# Altium footprint library Control_Board_Model_C201.PcbLib: 94 footprints (part 3 of 6)
Each footprint in its own frame and in the unit in brackets; x right, y up, seen from the top. Pads: shape width x height; smd on the part's side, far side on the other; paste and mask are expansions set on the pad; w line width, h text height; cw(c..) or ccw(c..) is an arc to the next point about the centre after c.
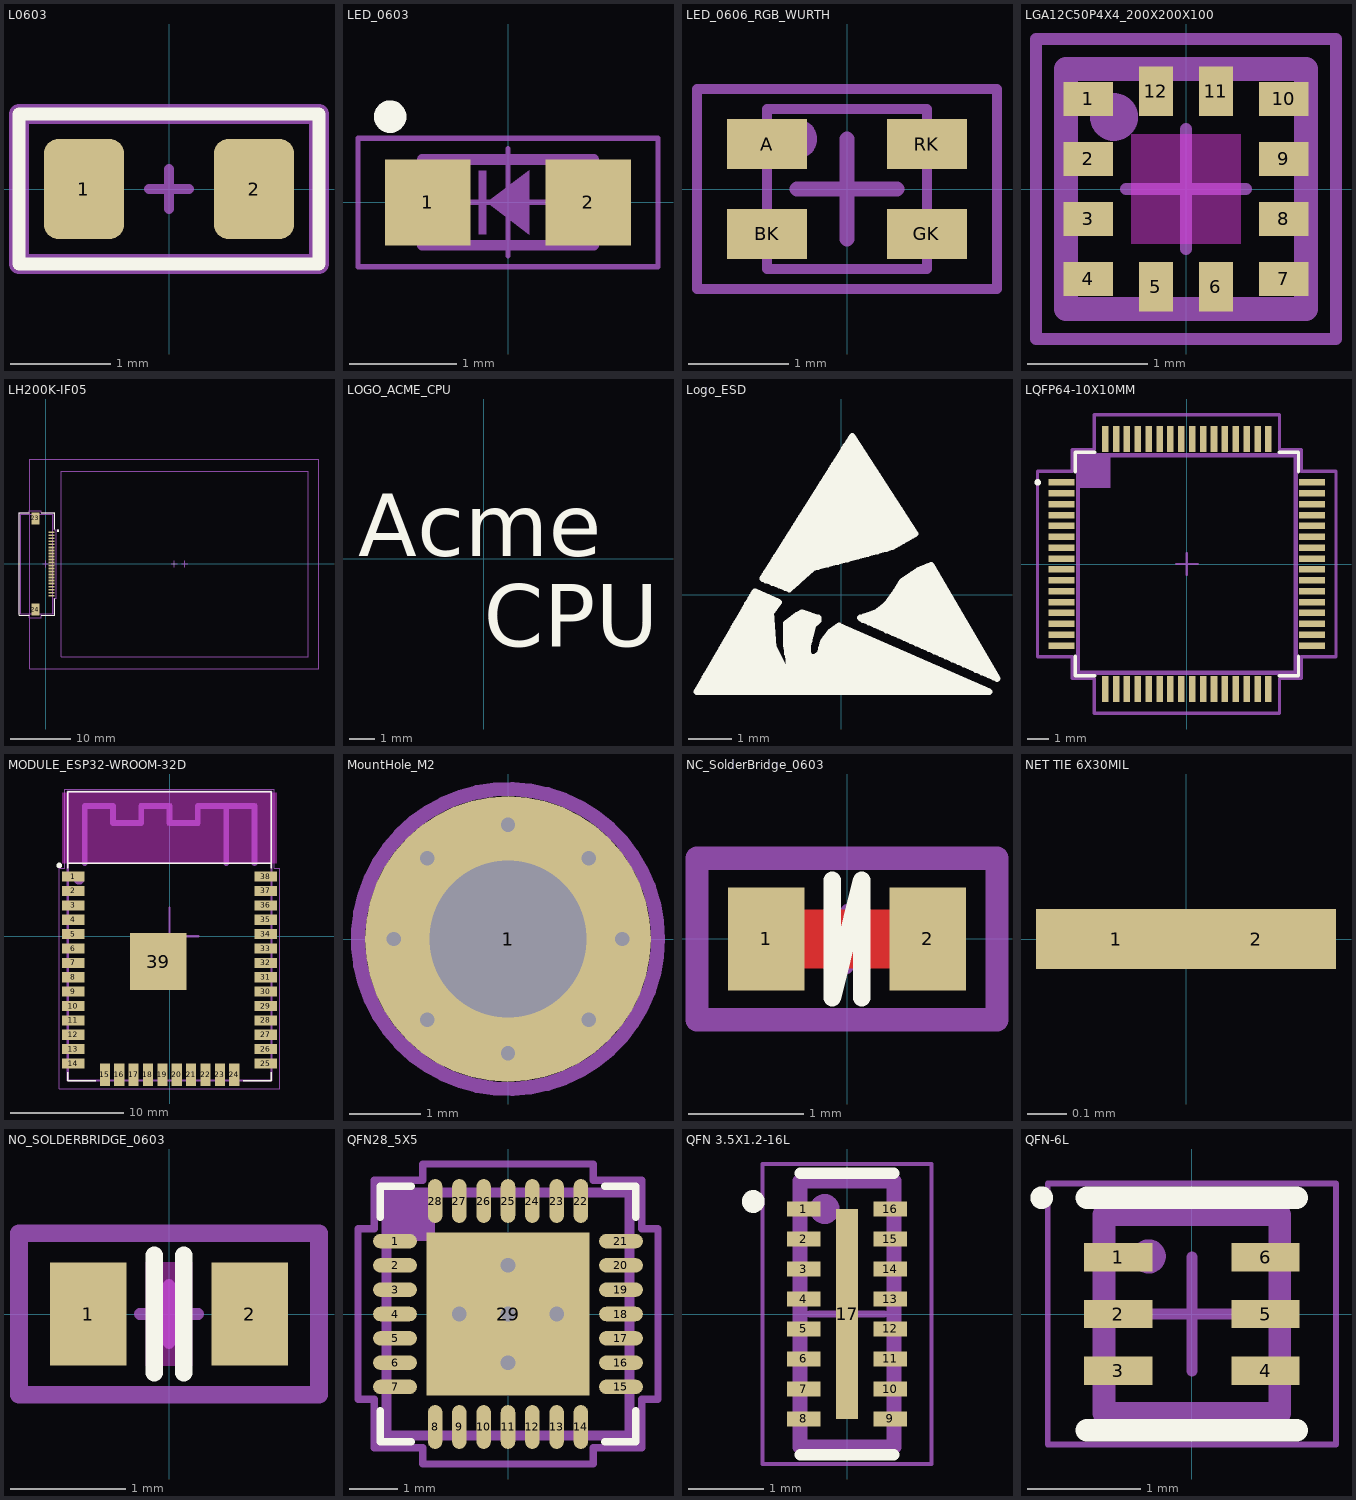
[diagram p2: the footprints below, top view; thin cyan lines are the x and y axes]

## L0603 [mm]
pads (2):
  rrect35% 0.8x1 smd: 1(-0.85,0) 2(0.85,0)
Top Overlay:
  lines w0.127: -1.5,-0.75 -1.5,0.75 1.5,0.75 1.5,-0.75 -1.5,-0.75
Mechanical 14:
  lines w0.2: -1.5,-0.75 1.5,-0.75 1.5,0.75 -1.5,0.75 -1.5,-0.75
  text ".Designator" at -1,-0.2 h0.5
Mechanical 15:
  lines w0.1: -0.2,0 0.2,0 ; 0,-0.2 0,0.2 ; -1.5,-0.75 -1.5,0.75 1.5,0.75 1.5,-0.75 -1.5,-0.75
3D body "IND_1608.step": height 0.8, standoff 0, extent -0.8,-0.4 0.8,0.4

## LED_0603 [mm] "LED Indication - Discrete 0603"
height 0.55
pads (2):
  rect 0.8x0.8 smd: 1(-0.75,0) 2(0.75,0)
Top Overlay:
  circle w0.203: c-1.1,0.8 r0.05
Mechanical 14:
  rectangle: -0.275,-0.3 -0.2,0.3
  region: -0.2,0 0.2,0.3 0.2,-0.3
  lines w0.1: -0.8,-0.4 -0.8,0.4 0.8,0.4 0.8,-0.4 -0.8,-0.4
  text "'.Designator'" at -0.9,0.7 h0.5
Mechanical 15:
  lines w0.05: -0.5,0 0.5,0 ; 0,-0.5 0,0.5 ; -1.4,-0.6 1.4,-0.6 1.4,0.6 -1.4,0.6 -1.4,-0.6
3D body "LTST-C191KGKT--3DModel-STEP-56544.STEP": height 0.55, standoff 0, extent -0.8,-0.4 0.8,0.4

## LED_0606_RGB_WURTH [mm] "Chip; Body 1.6 x 1.6 mm (LxW typ) WURTH"
height 0.55
pads (4):
  rect 0.8x0.5 smd: A(-0.8,0.45) BK(-0.8,-0.45) GK(0.8,-0.45) RK(0.8,0.45)
Mechanical 14:
  circle w0.2: c-0.5,0.5 r0.1
  lines w0.1: -0.8,-0.8 0.8,-0.8 0.8,0.8 -0.8,0.8 -0.8,-0.8
  text ".Designator" at -1,1.1 h0.5
Mechanical 15:
  lines w0.1: -1.5,-1 -1.5,1 1.5,1 1.5,-1 -1.5,-1
  lines w0.152: -0.5,0 0.5,0 ; 0,-0.5 0,0.5
3D body "STEP-WL-SFCW-0606-rev1.stp": height 0.4, standoff 0, extent -0.8,-0.8 0.8,0.8

## LGA12C50P4X4_200X200X100 [mm] "LGA, 12-Leads, Body 2.00x2.00mmx1.00mm, Pitch 0.50mm"
height 1
pads (12):
  rect 0.41x0.28 smd mask+0.05: 1(-0.815,0.75) 2(-0.815,0.25) 3(-0.815,-0.25) 4(-0.815,-0.75) 7(0.815,-0.75) 8(0.815,-0.25) 9(0.815,0.25) 10(0.815,0.75)
  rect 0.28x0.41 smd mask+0.05: 5(-0.25,-0.815) 6(0.25,-0.815) 11(0.25,0.815) 12(-0.25,0.815)
Top Layer keep-out:
  rectangle: -0.457,-0.457 0.457,0.457
Mechanical 14:
  circle w0.2: c-0.6,0.6 r0.1
  lines w0.2: -1,-1 -1,1 1,1 1,-1 -1,-1
  text "'.Designator'" at -0.6,-0.3 h0.5
Mechanical 15:
  lines w0.1: -0.5,0 0.5,0 ; 0,-0.5 0,0.5 ; -1.25,-1.25 -1.25,1.25 1.25,1.25 1.25,-1.25 -1.25,-1.25
3D body "LGA12C50P4X4_200X200X100.step": height 1, standoff 0, extent -1.038,-1.038 1.038,1.038

## LH200K-IF05 [mm] "TFT LCD MODULE"
height 7
pads (24):
  rect 1x0.3 smd mask+0.05: 1(1,-5.25) 2(1,-4.75) 3(1,-4.25) 4(1,-3.75) 5(1,-3.25) 6(1,-2.75) 7(1,-2.25) 8(1,-1.75) 9(1,-1.25) 10(1,-0.75) 11(1,-0.25) 12(1,0.25) 13(1,0.75) 14(1,1.25) 15(1,1.75) 16(1,2.25) 17(1,2.75) 18(1,3.25) 19(1,3.75) 20(1,4.25) 21(1,4.75) 22(1,5.25)
  rect 1.3x2 smd mask+0.05: 23(-1.7,7.55) 24(-1.7,-7.55)
Top Overlay:
  circle w0.2: c2.046,5.5 r0.1
  lines w0.152: -2.706,-8.5 -4.4,-8.5 -4.4,8.5 -2.706,8.5 ; -0.694,-8.5 1.5,-8.5 1.5,-5.761 ; -0.694,8.5 1.5,8.5 1.5,5.761
Mechanical 14:
  circle w0.2: c2.046,5.5 r0.1
  lines w0.2: -4.15,-8.25 1.15,-8.25 1.15,8.25 -4.15,8.25 -4.15,-8.25
  text "22" at -0.316,7.436 h1
  text "1" at -0.062,-5.772 h1
Mechanical 15:
  lines w0.1: -0.5,0 0.5,0 ; 0,-0.5 0,0.5
  lines w0.152: -4.363,-8.204 -2.7,-8.204 -2.7,-8.9 -0.7,-8.9 -0.7,-8.204 1.454,-8.204 1.454,-5.682 1.775,-5.682 1.775,5.682 1.454,5.682 1.454,8.5 -0.7,8.5 -0.7,8.807 -2.7,8.807 -2.7,8.5 -4.363,8.5 -4.363,-8.204
Mechanical 19:
  lines w0.2: 20.8,0 21.8,0 ; 21.3,-0.5 21.3,0.5 ; 22.5,0 23.5,0 ; 23,-0.5 23,0.5 ; -2.6,-17.3 -2.6,17.3 45.2,17.3 45.2,-17.3 -2.6,-17.3 ; 2.6,-15.3 2.6,15.3 43.4,15.3 43.4,-15.3 2.6,-15.3
  text "Top Left Corner" at 41.8,-14.8 h1
  text "Center of the screen" at 23.6,-8.9 h1
  text "Center of the panel" at 19.6,-9.1 h1
3D body "5051102291.stp": height 1.88, standoff -0.02, extent -4.154,-8.25 1.146,8.25
3D body: height -6, standoff -8, extent -2.6,-17.3 45.2,17.3

## LOGO_ACME_CPU [mm]
Top Overlay:
  text "CPU" at 0,-3.5 h2.5
  text "Acme" at -5,0.1 h2.5

## Logo_ESD [mm] "Silk only"
Top Overlay:
  drawing of 211 lines, arcs and shapes, not listed

## LQFP64-10X10MM [mm]
pads (64):
  rect 1.2x0.3 smd: 1(-5.75,3.75) 2(-5.75,3.25) 3(-5.75,2.75) 4(-5.75,2.25) 5(-5.75,1.75) 6(-5.75,1.25) 7(-5.75,0.75) 8(-5.75,0.25) 9(-5.75,-0.25) 10(-5.75,-0.75) 11(-5.75,-1.25) 12(-5.75,-1.75) 13(-5.75,-2.25) 14(-5.75,-2.75) 15(-5.75,-3.25) 16(-5.75,-3.75) 33(5.75,-3.75) 34(5.75,-3.25) 35(5.75,-2.75) 36(5.75,-2.25) 37(5.75,-1.75) 38(5.75,-1.25) 39(5.75,-0.75) 40(5.75,-0.25) 41(5.75,0.25) 42(5.75,0.75) 43(5.75,1.25) 44(5.75,1.75) 45(5.75,2.25) 46(5.75,2.75) 47(5.75,3.25) 48(5.75,3.75)
  rect 0.3x1.2 smd: 17(-3.75,-5.75) 18(-3.25,-5.75) 19(-2.75,-5.75) 20(-2.25,-5.75) 21(-1.75,-5.75) 22(-1.25,-5.75) 23(-0.75,-5.75) 24(-0.25,-5.75) 25(0.25,-5.75) 26(0.75,-5.75) 27(1.25,-5.75) 28(1.75,-5.75) 29(2.25,-5.75) 30(2.75,-5.75) 31(3.25,-5.75) 32(3.75,-5.75) 49(3.75,5.75) 50(3.25,5.75) 51(2.75,5.75) 52(2.25,5.75) 53(1.75,5.75) 54(1.25,5.75) 55(0.75,5.75) 56(0.25,5.75) 57(-0.25,5.75) 58(-0.75,5.75) 59(-1.25,5.75) 60(-1.75,5.75) 61(-2.25,5.75) 62(-2.75,5.75) 63(-3.25,5.75) 64(-3.75,5.75)
Top Overlay:
  circle w0.152: c-6.851,3.75 r0.076
  lines w0.152: -5.131,-4.234 -5.131,-5.131 -4.234,-5.131 ; -5.131,4.234 -5.131,5.131 -4.234,5.131 ; 4.234,-5.131 5.131,-5.131 5.131,-4.234 ; 4.234,5.131 5.131,5.131 5.131,4.234
Mechanical 14:
  rectangle: -5,3.5 -3.5,5
  lines w0.2: -5,-5 5,-5 5,5 -5,5 -5,-5
  text "'.Designator'" at -1.1,-0.2 h0.5
Mechanical 15:
  lines w0.1: -0.5,0 0.5,0 ; 0,-0.5 0,0.5
  lines w0.152: -6.855,-4.258 -5.258,-4.258 -5.258,-5.258 -4.258,-5.258 -4.258,-6.855 4.258,-6.855 4.258,-5.258 5.258,-5.258 5.258,-4.258 6.855,-4.258 6.855,4.258 5.258,4.258 5.258,5.258 4.258,5.258 4.258,6.855 -4.258,6.855 -4.258,5.258 -5.258,5.258 -5.258,4.258 -6.855,4.258 -6.855,-4.258
3D body "LQFP64-10x10mm.stp": height 1.6, standoff 0, extent -5.997,-5.997 5.997,5.997

## MODULE_ESP32-WROOM-32D [mm]
pads (39):
  rect 2x0.9 smd: 1(-8.5,5.26) 2(-8.5,3.99) 3(-8.5,2.72) 4(-8.5,1.45) 5(-8.5,0.18) 6(-8.5,-1.09) 7(-8.5,-2.36) 8(-8.5,-3.63) 9(-8.5,-4.9) 10(-8.5,-6.17) 11(-8.5,-7.44) 12(-8.5,-8.71) 13(-8.5,-9.98) 14(-8.5,-11.25) 25(8.5,-11.25) 26(8.5,-9.98) 27(8.5,-8.71) 28(8.5,-7.44) 29(8.5,-6.17) 30(8.5,-4.9) 31(8.5,-3.63) 32(8.5,-2.36) 33(8.5,-1.09) 34(8.5,0.18) 35(8.5,1.45) 36(8.5,2.72) 37(8.5,3.99) 38(8.5,5.26)
  rect 0.9x2 smd: 15(-5.715,-12.25) 16(-4.445,-12.25) 17(-3.175,-12.25) 18(-1.905,-12.25) 19(-0.635,-12.25) 20(0.635,-12.25) 21(1.905,-12.25) 22(3.175,-12.25) 23(4.445,-12.25) 24(5.715,-12.25)
  rect 5x5 smd: 39(-1,-2.24)
Top Overlay:
  circle w0.3: c-9.75,6.25 r0.1
  lines w0.127: -9,-12 -9,-12.75 -6.5,-12.75 ; -9,6 -9,12.75 9,12.75 9,6 ; -8.96,6.45 8.96,6.45 ; 6.5,-12.75 9,-12.75 9,-12
Top Paste:
  region: -2.584,-0.659 0.581,-0.659 0.581,-3.825 -2.584,-3.825
Keep-Out Layer:
  rectangle: -9.5,6.4 9.5,12.7
Mechanical 14:
  circle w0.5: c-8,5 r0.2
  lines w0.152: -8.96,6.45 8.96,6.45
  lines w0.2: -9,-12.75 -9,12.75 9,12.75 9,-12.75 -9,-12.75
  lines w0.5: -7.5,6.45 -7.5,11.5 -5,11.5 -5,10 -2.5,10 -2.5,11.5 0,11.5 0,10 2.5,10 2.5,11.5 5,11.5 5,6.45 ; 3,11.5 7.5,11.5 7.5,6.45
  text ".Designator" at -1.3,-0.2 h0.5
Mechanical 15:
  lines w0.05: -9.75,-13.5 9.75,-13.5 9.75,6 9.25,6 9.25,13 -9.25,13 -9.25,6 -9.75,6 -9.75,-13.5
  lines w0.2: -2.54,0 2.54,0 ; 0,-2.54 0,2.54
3D body "ESP32-WROOM-32D--3DModel-STEP-56544.STEP": height 3.25, standoff 0, extent -9,-12.75 9,12.75

## MountHole_M2 [mm] "Mount Hole M2"
height 0.025
pads (1):
  round 4 hole 2.2 paste-2 mask-2: 1(0,0)
via 0,1.6 diameter 0.55 hole 0.2
via 1.6,0 diameter 0.55 hole 0.2
via 0,-1.6 diameter 0.55 hole 0.2
via -1.6,0 diameter 0.55 hole 0.2
via -1.131,-1.131 diameter 0.55 hole 0.2
via 1.131,-1.131 diameter 0.55 hole 0.2
via 1.131,1.131 diameter 0.55 hole 0.2
via -1.131,1.131 diameter 0.55 hole 0.2
Top Solder:
  region: 0,2.1 0.207,2.1 0.613,2.019 0.995,1.861 1.339,1.631 1.631,1.339 1.861,0.995 2.019,0.613 2.1,0.207 2.1,0 2.1,-0.207 2.019,-0.613 1.861,-0.995 1.631,-1.339 1.339,-1.631 0.995,-1.861 0.613,-2.019 0.207,-2.1 0,-2.1 -0.207,-2.1 -0.612,-2.019 -0.995,-1.861 -1.339,-1.631 -1.631,-1.339 -1.861,-0.995 -2.019,-0.613 -2.1,-0.207 -2.1,0 -2.1,0.207 -2.019,0.613 -1.861,0.995 -1.631,1.339 -1.339,1.631 -0.995,1.861 -0.613,2.019 -0.207,2.1
Bottom Solder:
  region: 0,2.1 0.207,2.1 0.613,2.019 0.995,1.861 1.339,1.631 1.631,1.339 1.861,0.995 2.019,0.613 2.1,0.207 2.1,0 2.1,-0.207 2.019,-0.613 1.861,-0.995 1.631,-1.339 1.339,-1.631 0.995,-1.861 0.613,-2.019 0.207,-2.1 0,-2.1 -0.207,-2.1 -0.612,-2.019 -0.995,-1.861 -1.339,-1.631 -1.631,-1.339 -1.861,-0.995 -2.019,-0.613 -2.1,-0.207 -2.1,0 -2.1,0.207 -2.019,0.613 -1.861,0.995 -1.631,1.339 -1.339,1.631 -0.995,1.861 -0.613,2.019 -0.207,2.1
Mechanical 8:
  lines w0.2: -1,0 1,0 ; 0,-1 0,1
Mechanical 14:
  circle w0.2: c0,0 r2.1
  text "'.Designator'" at -0.381,-0.127 h0.5
Mechanical 15:
  lines w0.1: -1,0 1,0 ; 0,-1 0,1
3D body: height -0.09, standoff -0.1, extent -2,-2 2,2

## NC_SolderBridge_0603 [mil]
pads (2):
  rect 26x35 smd: 1(-27.56,0) 2(27.56,0)
Top Layer:
  rectangle: -16,-10 16,10
Top Overlay:
  lines w6: -5,20 -5,-20 5,20 5,-20
Mechanical 14:
  lines w7.87: -51.18,-27.56 51.18,-27.56 51.18,27.56 -51.18,27.56 -51.18,-27.56
  text ".Designator" at -39.37,-7.87 h19.68
Mechanical 15:
  lines w1.97: -51.18,-27.56 -51.18,27.56 51.18,27.56 51.18,-27.56 -51.18,-27.56
  lines w3.94: -10,0 10,0 ; 0,-10 0,10

## NET TIE 6X30MIL [mil]
pads (2):
  rect 16x6 smd paste-5 mask-5: 1(-7,0) 2(7,0)
Mechanical 15:
  lines w2: -5,0 5,0 ; 0,-1 0,1

## NO_SOLDERBRIDGE_0603 [mil]
pads (2):
  rect 26x35 smd: 1(-27.56,0) 2(27.56,0)
Top Layer keep-out:
  rectangle: -8,-17.72 8,17.72
Top Overlay:
  lines w6: -5,-20 -5,20 ; 5,-20 5,20
Top Solder:
  rectangle: -45.28,-21.65 45.28,21.65
Mechanical 14:
  lines w5.98: -51.18,-27.56 51.18,-27.56 51.18,27.56 -51.18,27.56 -51.18,-27.56
  text ".Designator" at -31.5,-7.87 h19.68
Mechanical 15:
  lines w1.97: -51.18,-27.56 -51.18,27.56 51.18,27.56 51.18,-27.56 -51.18,-27.56
  lines w3.94: -10,0 10,0 ; 0,-10 0,10

## QFN28_5X5 [mm]
pads (29):
  rrect100% 0.9x0.3 smd paste+0 mask+0.05: 1(-2.324,1.5) 2(-2.324,1) 3(-2.324,0.5) 4(-2.324,0) 5(-2.324,-0.5) 6(-2.324,-1) 7(-2.324,-1.5) 15(2.324,-1.5) 16(2.324,-1) 17(2.324,-0.5) 18(2.324,0) 19(2.324,0.5) 20(2.324,1) 21(2.324,1.5)
  rrect100% 0.3x0.9 smd paste+0 mask+0.05: 8(-1.5,-2.324) 9(-1,-2.324) 10(-0.5,-2.324) 11(0,-2.324) 12(0.5,-2.324) 13(1,-2.324) 14(1.5,-2.324) 22(1.5,2.324) 23(1,2.324) 24(0.5,2.324) 25(0,2.324) 26(-0.5,2.324) 27(-1,2.324) 28(-1.5,2.324)
  rect 3.35x3.35 smd paste-2 mask+0.05: 29(0,0)
via 0,0 diameter 0.605 hole 0.3
via -1,0 diameter 0.605 hole 0.3
via 1,0 diameter 0.605 hole 0.3
via 0,1 diameter 0.605 hole 0.3
via 0,-1 diameter 0.605 hole 0.3
Top Overlay:
  lines w0.152: -2.629,-1.985 -2.629,-2.629 -1.985,-2.629 ; -2.629,1.985 -2.629,2.629 -1.985,2.629 ; 1.985,-2.629 2.629,-2.629 2.629,-1.985 ; 1.985,2.629 2.629,2.629 2.629,1.985
Top Paste:
  region: 1.525,-0.1 0.1,-0.1 0.1,-1.525 1.525,-1.525
  region: 1.525,1.525 0.1,1.525 0.1,0.1 1.525,0.1
  region: -0.1,-0.1 -1.525,-0.1 -1.525,-1.525 -0.1,-1.525
  region: -0.1,1.525 -1.525,1.525 -1.525,0.1 -0.1,0.1
Mechanical 14:
  rectangle: -2.5,1.5 -1.5,2.5
  lines w0.2: -2.5,-2.5 2.5,-2.5 2.5,2.5 -2.5,2.5 -2.5,-2.5
  text "'.Designator'" at -0.5,-0.2 h0.5
Mechanical 15:
  lines w0.051: -0.5,0 0.5,0 ; 0,-0.5 0,0.5
  lines w0.152: -3.086,-1.75 -3.086,1.75 -2.756,1.75 -2.756,2.756 -1.75,2.756 -1.75,3.086 1.75,3.086 1.75,2.756 2.756,2.756 2.756,1.75 3.086,1.75 3.086,-1.75 2.756,-1.75 2.756,-2.756 1.75,-2.756 1.75,-3.086 -1.75,-3.086 -1.75,-2.756 -2.756,-2.756 -2.756,-1.75 -3.086,-1.75
3D body "QFN28_5X5.stp": height 0.94, standoff 0, extent -2.553,-2.553 2.553,2.553

## QFN 3.5X1.2-16L [mm] "Micro QFN 3.5x1.2-16L footprint"
height 0.5
pads (17):
  rect 0.45x0.2 smd: 1(-0.575,1.4) 2(-0.575,1) 3(-0.575,0.6) 4(-0.575,0.2) 5(-0.575,-0.2) 6(-0.575,-0.6) 7(-0.575,-1) 8(-0.575,-1.4) 9(0.575,-1.4) 10(0.575,-1) 11(0.575,-0.6) 12(0.575,-0.2) 13(0.575,0.2) 14(0.575,0.6) 15(0.575,1) 16(0.575,1.4)
  rect 0.3x2.8 smd: 17(0,0)
Top Overlay:
  circle w0.152: c-1.25,1.5 r0.076
  lines w0.152: -0.625,-1.875 0.625,-1.875 ; -0.625,1.875 0.625,1.875
Mechanical 14:
  circle w0.2: c-0.3,1.4 r0.1
  lines w0.2: -0.625,-1.775 -0.625,1.775 0.625,1.775 0.625,-1.775 -0.625,-1.775
  text "'.Designator'" at -0.4,-0.3 h0.5
Mechanical 15:
  lines w0.051: -1.125,-2 1.125,-2 1.125,2 -1.125,2 -1.125,-2
  lines w0.1: -0.5,0 0.5,0 ; 0,-0.5 0,0.5
3D body "SON40P120X55_HS-17N.step": height 0.55, standoff 0.05, extent -0.625,-1.775 0.625,1.775

## QFN-6L [mm]
height 0.5
pads (6):
  rect 0.6x0.25 smd: 1(-0.65,0.5) 2(-0.65,0) 3(-0.65,-0.5) 4(0.65,-0.5) 5(0.65,0) 6(0.65,0.5)
Top Overlay:
  circle w0.1: c-1.325,1.025 r0.05
  lines w0.2: -0.925,-1.025 0.925,-1.025 ; -0.925,1.025 0.925,1.025
Mechanical 14:
  circle w0.2: c-0.381,0.508 r0.05
  lines w0.2: -0.775,-0.875 0.775,-0.875 0.775,0.875 -0.775,0.875 -0.775,-0.875
  text "'.Designator'" at -0.4,-0.3 h0.5
Mechanical 15:
  lines w0.05: -1.27,-1.15 1.27,-1.15 1.27,1.15 -1.27,1.15 -1.27,-1.15
  lines w0.1: -0.5,0 0.5,0 ; 0,-0.5 0,0.5
3D body "SON50P150X55-6N.step": height 0.55, standoff 0.05, extent -0.775,-0.875 0.775,0.875